# Altium footprint library 0430450827.PcbLib: 1 footprints
Each footprint in its own frame and in the unit in brackets; x right, y up, seen from the top. Pads: shape width x height; smd on the part's side, far side on the other; paste and mask are expansions set on the pad; w line width, h text height; cw(c..) or ccw(c..) is an arc to the next point about the centre after c.
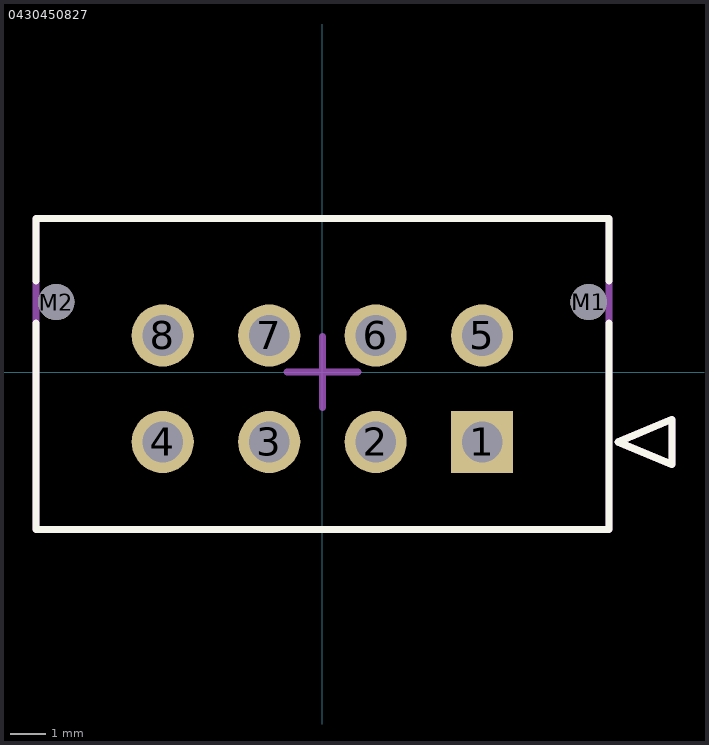
[diagram p0: the footprint, top view; thin cyan lines are the x and y axes]

## 0430450827 [mm]
pads (10):
  rect 1.75x1.75 hole 1.15 mask+0.051: 1(4.5,-1.97)
  round 1.75 hole 1.15 mask+0.051: 2(1.5,-1.97) 3(-1.5,-1.97) 4(-4.5,-1.97) 5(4.5,1.03) 6(1.5,1.03) 7(-1.5,1.03) 8(-4.5,1.03)
  round 1.02 hole 1.02 unplated mask+0: M1(7.5,1.97) M2(-7.5,1.97)
Top Overlay:
  lines w0.2: -8.075,1.375 -8.075,-4.44 8.075,-4.44 8.075,1.375 ; -8.075,2.565 -8.075,4.33 8.075,4.33 8.075,2.565 ; 8.329,-1.97 9.853,-1.335 9.853,-2.605 8.329,-1.97
Top Designator:
  text ".Designator" at -6.729,-0.563 h1.52
3D Body:
  lines w0.2: -8.075,-4.44 8.075,-4.44 8.075,4.33 -8.075,4.33 -8.075,-4.44 ; 8.329,-1.97 9.853,-1.335 9.853,-2.605 8.329,-1.97
Center Cross:
  lines w0.2: -1,0 0,0 ; 0,-1 0,0 ; 0,1 0,0 ; 1,0 0,0
3D body "430450827--3DModel-STEP-390490.STEP": height 9.92, standoff -3.17, extent -8.088,-4.466 8.09,4.356